# Altium schematic symbol library RMCF1206JT20K0.SchLib: 1 symbol
Pins are listed as number, name and electrical type; pins without a type are passive.

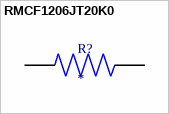
[diagram p0: symbol RMCF1206JT20K0]

## RMCF1206JT20K0
designator R?
MP: RMCF1206JT20K0; Package: None; Price: None; Value: *; Availability: Unavailable
footprint RESC3216X70N
pins: 1, 2